# Altium schematic symbol library MCU_ST_STM32L4.SchLib: 320 symbols (part 9 of 9)
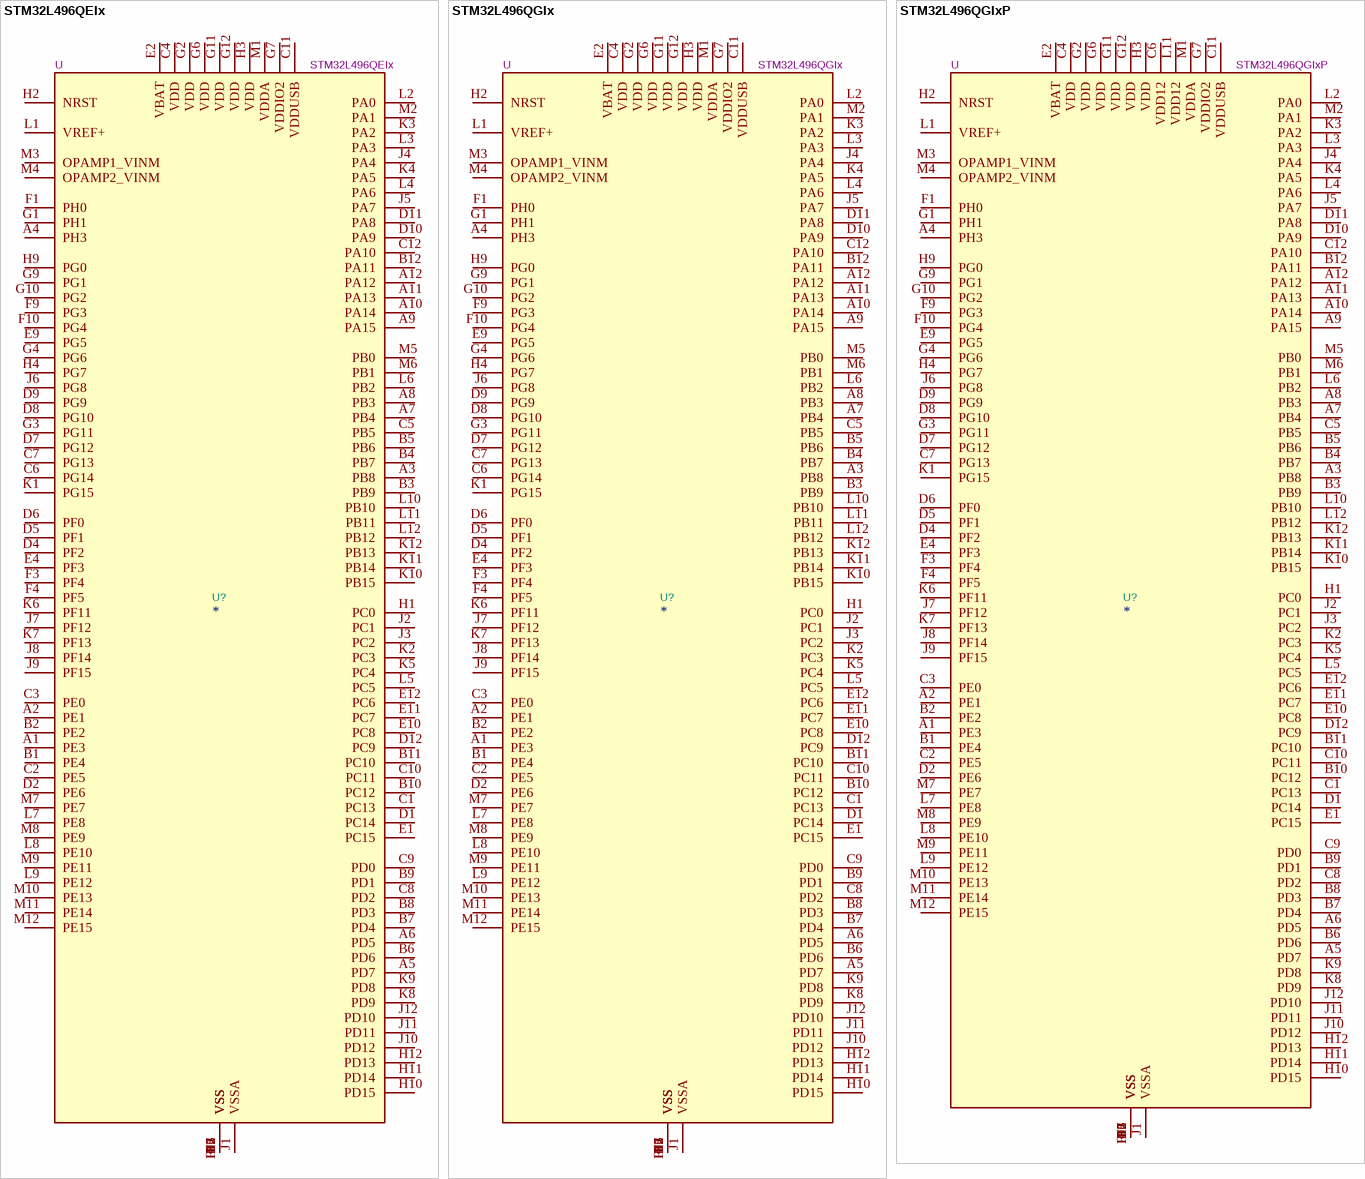
[diagram p71: symbols STM32L496QEIx to STM32L496QGIxP]

## STM32L496QGIxP
designator U?  value STM32L496QGIxP  Reference: U
STMicroelectronics Arm Cortex-M4 MCU, 1024KB flash, 320KB RAM, 80 MHz, 1.71-3.6V, 108 GPIO, UFBGA132; ki_keywords: Arm Cortex-M4 STM32L4 STM32L4x6; ki_fp_filters: UFBGA*7x7mm*Layout12x12*P0.5mm*; Footprint: Package_BGA:UFBGA-132_7x7mm_Layout12x12_P0.5mm; Datasheet: https://www.st.com/resource/en/datasheet/stm32l496qg.pdf; Description_: STMicroelectronics Arm Cortex-M4 MCU, 1024KB flash, 320KB RAM, 80 MHz, 1.71-3.6V, 108 GPIO, UFBGA132
pins: A1 PE3, A2 PE1, A3 PB8, A4 PH3, A5 PD7, A6 PD5, A7 PB4, A8 PB3, A9 PA15, A10 PA14, A11 PA13, A12 PA12, B1 PE4, B2 PE2, B3 PB9, B4 PB7, B5 PB6, B6 PD6, B7 PD4, B8 PD3, B9 PD1, B10 PC12, B11 PC10, B12 PA11, C1 PC13, C2 PE5, C3 PE0, C4 VDD, C5 PB5, C6 VDD12, C7 PG13, C8 PD2, C9 PD0, C10 PC11, C11 VDDUSB, C12 PA10, D1 PC14, D2 PE6, D3 VSS, D4 PF2, D5 PF1, D6 PF0, D7 PG12, D8 PG10, D9 PG9, D10 PA9, D11 PA8, D12 PC9, E1 PC15, E2 VBAT, E3 VSS, E4 PF3, E9 PG5, E10 PC8, E11 PC7, E12 PC6, F1 PH0, F2 VSS, F3 PF4, F4 PF5, F6 VSS, F7 VSS, F9 PG3, F10 PG4, F11 VSS, F12 VSS, G1 PH1, G2 VDD, G3 PG11, G4 PG6, G6 VDD, G7 VDDIO2, G9 PG1, G10 PG2, G11 VDD, G12 VDD, H1 PC0, H2 NRST, H3 VDD, H4 PG7, H9 PG0, H10 PD15, H11 PD14, H12 PD13, J1 VSSA, J2 PC1, J3 PC2, J4 PA4, J5 PA7, J6 PG8, J7 PF12, J8 PF14, J9 PF15, J10 PD12, J11 PD11, J12 PD10, K1 PG15, K2 PC3, K3 PA2, K4 PA5, K5 PC4, K6 PF11, K7 PF13, K8 PD9, K9 PD8, K10 PB15, K11 PB14, K12 PB13, L1 VREF+, L2 PA0, L3 PA3, L4 PA6, L5 PC5, L6 PB2, L7 PE8, L8 PE10, L9 PE12, L10 PB10, L11 VDD12, L12 PB12, M1 VDDA, M2 PA1, M3 OPAMP1_VINM, M4 OPAMP2_VINM, M5 PB0, M6 PB1, M7 PE7, M8 PE9, M9 PE11, M10 PE13, M11 PE14, M12 PE15

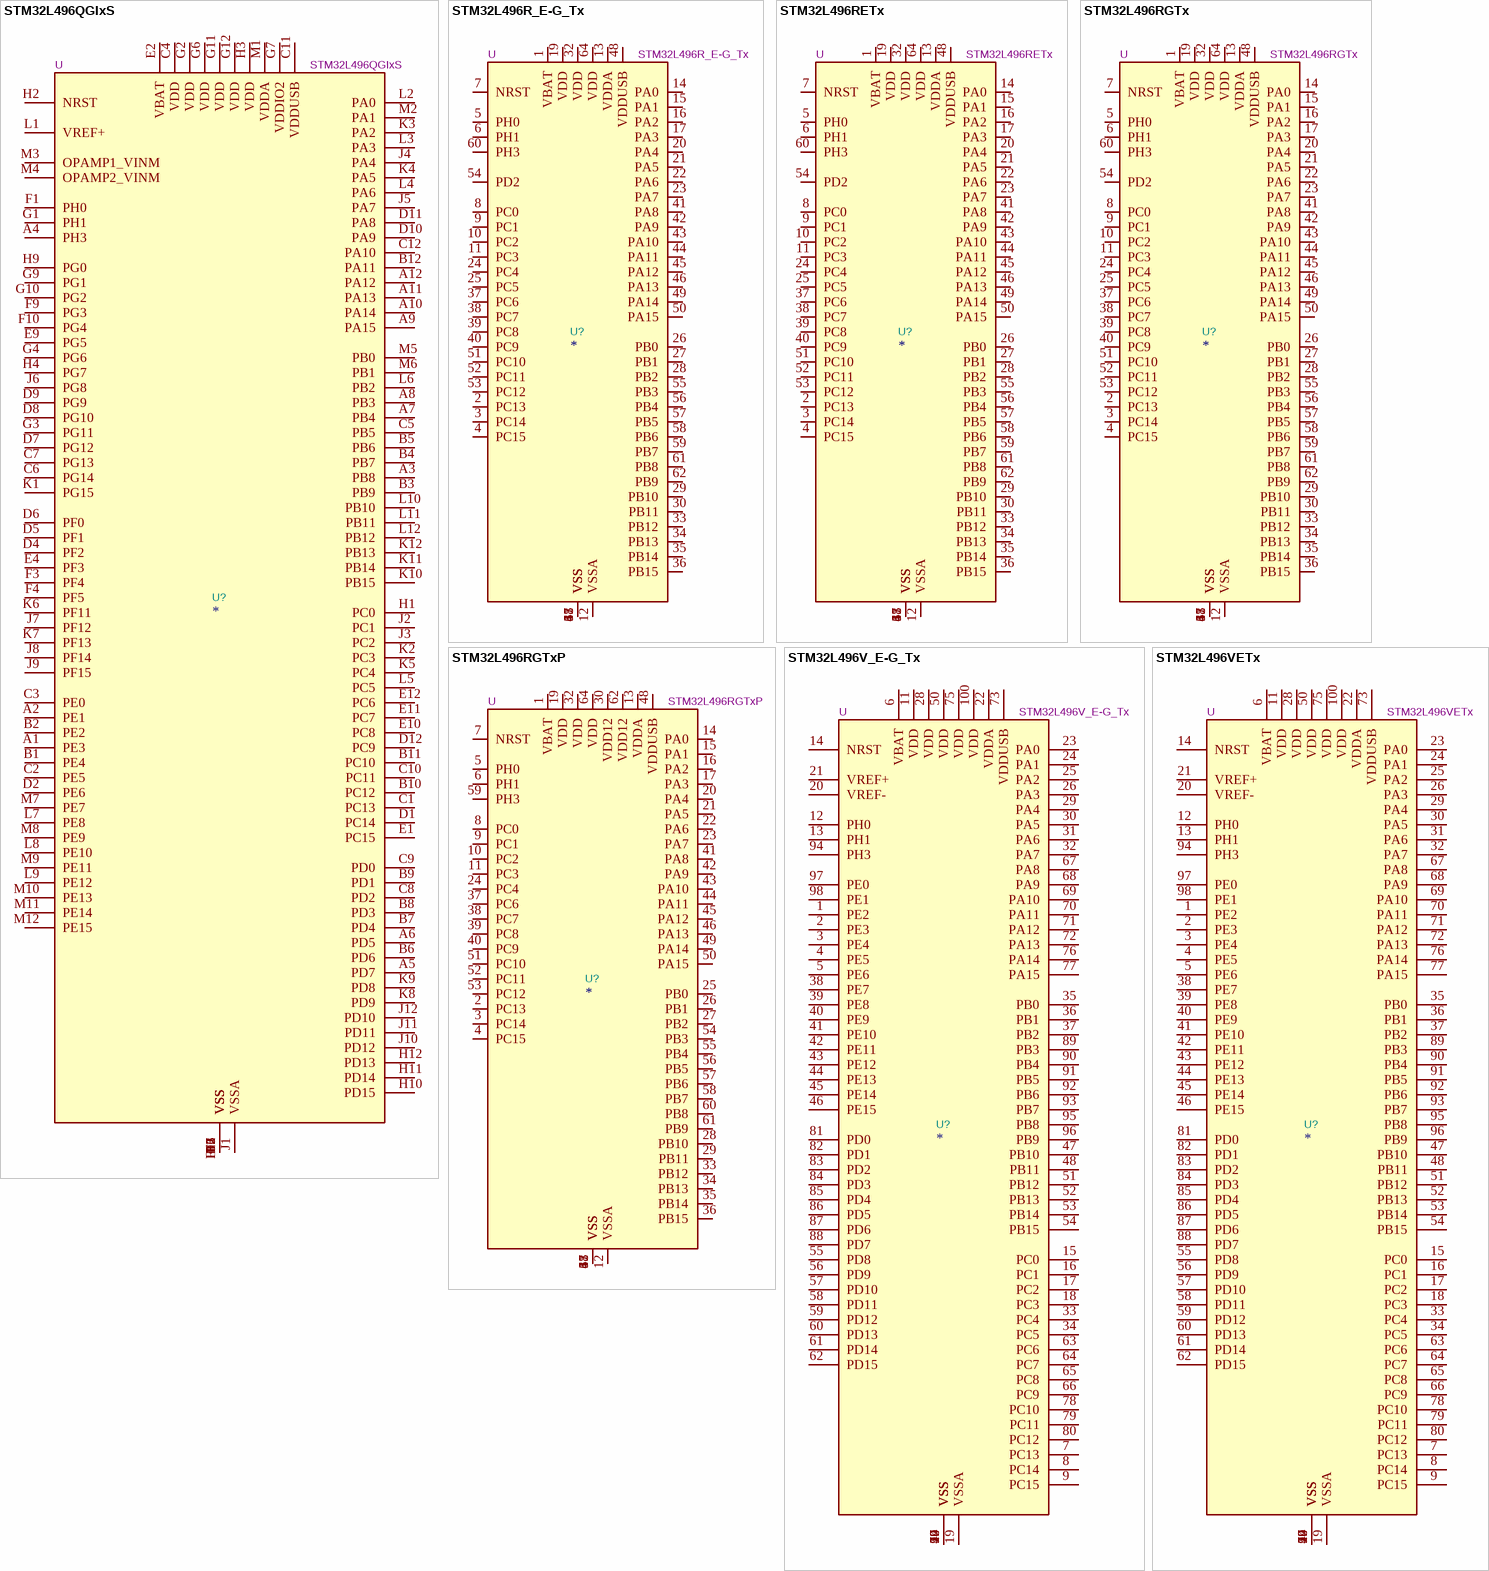
[diagram p60: symbols STM32L496QGIxS to STM32L496VETx]

## STM32L496QGIxS
designator U?  value STM32L496QGIxS  Reference: U
STMicroelectronics Arm Cortex-M4 MCU, 1024KB flash, 320KB RAM, 80 MHz, 1.71-3.6V, 110 GPIO, UFBGA132; ki_keywords: Arm Cortex-M4 STM32L4 STM32L4x6; ki_fp_filters: UFBGA*7x7mm*Layout12x12*P0.5mm*; Footprint: Package_BGA:UFBGA-132_7x7mm_Layout12x12_P0.5mm; Datasheet: https://www.st.com/resource/en/datasheet/stm32l496qg.pdf; Description_: STMicroelectronics Arm Cortex-M4 MCU, 1024KB flash, 320KB RAM, 80 MHz, 1.71-3.6V, 110 GPIO, UFBGA132
pins: A1 PE3, A2 PE1, A3 PB8, A4 PH3, A5 PD7, A6 PD5, A7 PB4, A8 PB3, A9 PA15, A10 PA14, A11 PA13, A12 PA12, B1 PE4, B2 PE2, B3 PB9, B4 PB7, B5 PB6, B6 PD6, B7 PD4, B8 PD3, B9 PD1, B10 PC12, B11 PC10, B12 PA11, C1 PC13, C2 PE5, C3 PE0, C4 VDD, C5 PB5, C6 PG14, C7 PG13, C8 PD2, C9 PD0, C10 PC11, C11 VDDUSB, C12 PA10, D1 PC14, D2 PE6, D3 VSS, D4 PF2, D5 PF1, D6 PF0, D7 PG12, D8 PG10, D9 PG9, D10 PA9, D11 PA8, D12 PC9, E1 PC15, E2 VBAT, E3 VSS, E4 PF3, E9 PG5, E10 PC8, E11 PC7, E12 PC6, F1 PH0, F2 VSS, F3 PF4, F4 PF5, F6 VSS, F7 VSS, F9 PG3, F10 PG4, F11 VSS, F12 VSS, G1 PH1, G2 VDD, G3 PG11, G4 PG6, G6 VDD, G7 VDDIO2, G9 PG1, G10 PG2, G11 VDD, G12 VDD, H1 PC0, H2 NRST, H3 VDD, H4 PG7, H9 PG0, H10 PD15, H11 PD14, H12 PD13, J1 VSSA, J2 PC1, J3 PC2, J4 PA4, J5 PA7, J6 PG8, J7 PF12, J8 PF14, J9 PF15, J10 PD12, J11 PD11, J12 PD10, K1 PG15, K2 PC3, K3 PA2, K4 PA5, K5 PC4, K6 PF11, K7 PF13, K8 PD9, K9 PD8, K10 PB15, K11 PB14, K12 PB13, L1 VREF+, L2 PA0, L3 PA3, L4 PA6, L5 PC5, L6 PB2, L7 PE8, L8 PE10, L9 PE12, L10 PB10, L11 PB11, L12 PB12, M1 VDDA, M2 PA1, M3 OPAMP1_VINM, M4 OPAMP2_VINM, M5 PB0, M6 PB1, M7 PE7, M8 PE9, M9 PE11, M10 PE13, M11 PE14, M12 PE15

## STM32L496R_E-G_Tx
designator U?  value STM32L496R_E-G_Tx  Reference: U
STMicroelectronics Arm Cortex-M4 MCU, 512-1024KB flash, 320KB RAM, 80 MHz, 1.71-3.6V, 52 GPIO, LQFP64; ki_keywords: Arm Cortex-M4 STM32L4 STM32L4x6; ki_fp_filters: LQFP*10x10mm*P0.5mm*; Footprint: Package_QFP:LQFP-64_10x10mm_P0.5mm; Datasheet: https://www.st.com/resource/en/datasheet/stm32l496re.pdf; Description_: STMicroelectronics Arm Cortex-M4 MCU, 512-1024KB flash, 320KB RAM, 80 MHz, 1.71-3.6V, 52 GPIO, LQFP64
pins: 1 VBAT, 2 PC13, 3 PC14, 4 PC15, 5 PH0, 6 PH1, 7 NRST, 8 PC0, 9 PC1, 10 PC2, 11 PC3, 12 VSSA, 13 VDDA, 14 PA0, 15 PA1, 16 PA2, 17 PA3, 18 VSS, 19 VDD, 20 PA4, 21 PA5, 22 PA6, 23 PA7, 24 PC4, 25 PC5, 26 PB0, 27 PB1, 28 PB2, 29 PB10, 30 PB11, 31 VSS, 32 VDD, 33 PB12, 34 PB13, 35 PB14, 36 PB15, 37 PC6, 38 PC7, 39 PC8, 40 PC9, 41 PA8, 42 PA9, 43 PA10, 44 PA11, 45 PA12, 46 PA13, 47 VSS, 48 VDDUSB, 49 PA14, 50 PA15, 51 PC10, 52 PC11, 53 PC12, 54 PD2, 55 PB3, 56 PB4, 57 PB5, 58 PB6, 59 PB7, 60 PH3, 61 PB8, 62 PB9, 63 VSS, 64 VDD

## STM32L496RETx
designator U?  value STM32L496RETx  Reference: U
STMicroelectronics Arm Cortex-M4 MCU, 512KB flash, 320KB RAM, 80 MHz, 1.71-3.6V, 52 GPIO, LQFP64; ki_keywords: Arm Cortex-M4 STM32L4 STM32L4x6; ki_fp_filters: LQFP*10x10mm*P0.5mm*; Footprint: Package_QFP:LQFP-64_10x10mm_P0.5mm; Datasheet: https://www.st.com/resource/en/datasheet/stm32l496re.pdf; Description_: STMicroelectronics Arm Cortex-M4 MCU, 512KB flash, 320KB RAM, 80 MHz, 1.71-3.6V, 52 GPIO, LQFP64
pins: 1 VBAT, 2 PC13, 3 PC14, 4 PC15, 5 PH0, 6 PH1, 7 NRST, 8 PC0, 9 PC1, 10 PC2, 11 PC3, 12 VSSA, 13 VDDA, 14 PA0, 15 PA1, 16 PA2, 17 PA3, 18 VSS, 19 VDD, 20 PA4, 21 PA5, 22 PA6, 23 PA7, 24 PC4, 25 PC5, 26 PB0, 27 PB1, 28 PB2, 29 PB10, 30 PB11, 31 VSS, 32 VDD, 33 PB12, 34 PB13, 35 PB14, 36 PB15, 37 PC6, 38 PC7, 39 PC8, 40 PC9, 41 PA8, 42 PA9, 43 PA10, 44 PA11, 45 PA12, 46 PA13, 47 VSS, 48 VDDUSB, 49 PA14, 50 PA15, 51 PC10, 52 PC11, 53 PC12, 54 PD2, 55 PB3, 56 PB4, 57 PB5, 58 PB6, 59 PB7, 60 PH3, 61 PB8, 62 PB9, 63 VSS, 64 VDD

## STM32L496RGTx
designator U?  value STM32L496RGTx  Reference: U
STMicroelectronics Arm Cortex-M4 MCU, 1024KB flash, 320KB RAM, 80 MHz, 1.71-3.6V, 52 GPIO, LQFP64; ki_keywords: Arm Cortex-M4 STM32L4 STM32L4x6; ki_fp_filters: LQFP*10x10mm*P0.5mm*; Footprint: Package_QFP:LQFP-64_10x10mm_P0.5mm; Datasheet: https://www.st.com/resource/en/datasheet/stm32l496rg.pdf; Description_: STMicroelectronics Arm Cortex-M4 MCU, 1024KB flash, 320KB RAM, 80 MHz, 1.71-3.6V, 52 GPIO, LQFP64
pins: 1 VBAT, 2 PC13, 3 PC14, 4 PC15, 5 PH0, 6 PH1, 7 NRST, 8 PC0, 9 PC1, 10 PC2, 11 PC3, 12 VSSA, 13 VDDA, 14 PA0, 15 PA1, 16 PA2, 17 PA3, 18 VSS, 19 VDD, 20 PA4, 21 PA5, 22 PA6, 23 PA7, 24 PC4, 25 PC5, 26 PB0, 27 PB1, 28 PB2, 29 PB10, 30 PB11, 31 VSS, 32 VDD, 33 PB12, 34 PB13, 35 PB14, 36 PB15, 37 PC6, 38 PC7, 39 PC8, 40 PC9, 41 PA8, 42 PA9, 43 PA10, 44 PA11, 45 PA12, 46 PA13, 47 VSS, 48 VDDUSB, 49 PA14, 50 PA15, 51 PC10, 52 PC11, 53 PC12, 54 PD2, 55 PB3, 56 PB4, 57 PB5, 58 PB6, 59 PB7, 60 PH3, 61 PB8, 62 PB9, 63 VSS, 64 VDD

## STM32L496RGTxP
designator U?  value STM32L496RGTxP  Reference: U
STMicroelectronics Arm Cortex-M4 MCU, 1024KB flash, 320KB RAM, 80 MHz, 1.71-3.6V, 50 GPIO, LQFP64; ki_keywords: Arm Cortex-M4 STM32L4 STM32L4x6; ki_fp_filters: LQFP*10x10mm*P0.5mm*; Footprint: Package_QFP:LQFP-64_10x10mm_P0.5mm; Datasheet: https://www.st.com/resource/en/datasheet/stm32l496rg.pdf; Description_: STMicroelectronics Arm Cortex-M4 MCU, 1024KB flash, 320KB RAM, 80 MHz, 1.71-3.6V, 50 GPIO, LQFP64
pins: 1 VBAT, 2 PC13, 3 PC14, 4 PC15, 5 PH0, 6 PH1, 7 NRST, 8 PC0, 9 PC1, 10 PC2, 11 PC3, 12 VSSA, 13 VDDA, 14 PA0, 15 PA1, 16 PA2, 17 PA3, 18 VSS, 19 VDD, 20 PA4, 21 PA5, 22 PA6, 23 PA7, 24 PC4, 25 PB0, 26 PB1, 27 PB2, 28 PB10, 29 PB11, 30 VDD12, 31 VSS, 32 VDD, 33 PB12, 34 PB13, 35 PB14, 36 PB15, 37 PC6, 38 PC7, 39 PC8, 40 PC9, 41 PA8, 42 PA9, 43 PA10, 44 PA11, 45 PA12, 46 PA13, 47 VSS, 48 VDDUSB, 49 PA14, 50 PA15, 51 PC10, 52 PC11, 53 PC12, 54 PB3, 55 PB4, 56 PB5, 57 PB6, 58 PB7, 59 PH3, 60 PB8, 61 PB9, 62 VDD12, 63 VSS, 64 VDD

## STM32L496V_E-G_Tx
designator U?  value STM32L496V_E-G_Tx  Reference: U
STMicroelectronics Arm Cortex-M4 MCU, 512-1024KB flash, 320KB RAM, 80 MHz, 1.71-3.6V, 83 GPIO, LQFP100; ki_keywords: Arm Cortex-M4 STM32L4 STM32L4x6; ki_fp_filters: LQFP*14x14mm*P0.5mm*; Footprint: Package_QFP:LQFP-100_14x14mm_P0.5mm; Datasheet: https://www.st.com/resource/en/datasheet/stm32l496ve.pdf; Description_: STMicroelectronics Arm Cortex-M4 MCU, 512-1024KB flash, 320KB RAM, 80 MHz, 1.71-3.6V, 83 GPIO, LQFP100
pins: 1 PE2, 2 PE3, 3 PE4, 4 PE5, 5 PE6, 6 VBAT, 7 PC13, 8 PC14, 9 PC15, 10 VSS, 11 VDD, 12 PH0, 13 PH1, 14 NRST, 15 PC0, 16 PC1, 17 PC2, 18 PC3, 19 VSSA, 20 VREF-, 21 VREF+, 22 VDDA, 23 PA0, 24 PA1, 25 PA2, 26 PA3, 27 VSS, 28 VDD, 29 PA4, 30 PA5, 31 PA6, 32 PA7, 33 PC4, 34 PC5, 35 PB0, 36 PB1, 37 PB2, 38 PE7, 39 PE8, 40 PE9, 41 PE10, 42 PE11, 43 PE12, 44 PE13, 45 PE14, 46 PE15, 47 PB10, 48 PB11, 49 VSS, 50 VDD, 51 PB12, 52 PB13, 53 PB14, 54 PB15, 55 PD8, 56 PD9, 57 PD10, 58 PD11, 59 PD12, 60 PD13, 61 PD14, 62 PD15, 63 PC6, 64 PC7, 65 PC8, 66 PC9, 67 PA8, 68 PA9, 69 PA10, 70 PA11, 71 PA12, 72 PA13, 73 VDDUSB, 74 VSS, 75 VDD, 76 PA14, 77 PA15, 78 PC10, 79 PC11, 80 PC12, 81 PD0, 82 PD1, 83 PD2, 84 PD3, 85 PD4, 86 PD5, 87 PD6, 88 PD7, 89 PB3, 90 PB4, 91 PB5, 92 PB6, 93 PB7, 94 PH3, 95 PB8, 96 PB9, 97 PE0, 98 PE1, 99 VSS, 100 VDD

## STM32L496VETx
designator U?  value STM32L496VETx  Reference: U
STMicroelectronics Arm Cortex-M4 MCU, 512KB flash, 320KB RAM, 80 MHz, 1.71-3.6V, 83 GPIO, LQFP100; ki_keywords: Arm Cortex-M4 STM32L4 STM32L4x6; ki_fp_filters: LQFP*14x14mm*P0.5mm*; Footprint: Package_QFP:LQFP-100_14x14mm_P0.5mm; Datasheet: https://www.st.com/resource/en/datasheet/stm32l496ve.pdf; Description_: STMicroelectronics Arm Cortex-M4 MCU, 512KB flash, 320KB RAM, 80 MHz, 1.71-3.6V, 83 GPIO, LQFP100
pins: 1 PE2, 2 PE3, 3 PE4, 4 PE5, 5 PE6, 6 VBAT, 7 PC13, 8 PC14, 9 PC15, 10 VSS, 11 VDD, 12 PH0, 13 PH1, 14 NRST, 15 PC0, 16 PC1, 17 PC2, 18 PC3, 19 VSSA, 20 VREF-, 21 VREF+, 22 VDDA, 23 PA0, 24 PA1, 25 PA2, 26 PA3, 27 VSS, 28 VDD, 29 PA4, 30 PA5, 31 PA6, 32 PA7, 33 PC4, 34 PC5, 35 PB0, 36 PB1, 37 PB2, 38 PE7, 39 PE8, 40 PE9, 41 PE10, 42 PE11, 43 PE12, 44 PE13, 45 PE14, 46 PE15, 47 PB10, 48 PB11, 49 VSS, 50 VDD, 51 PB12, 52 PB13, 53 PB14, 54 PB15, 55 PD8, 56 PD9, 57 PD10, 58 PD11, 59 PD12, 60 PD13, 61 PD14, 62 PD15, 63 PC6, 64 PC7, 65 PC8, 66 PC9, 67 PA8, 68 PA9, 69 PA10, 70 PA11, 71 PA12, 72 PA13, 73 VDDUSB, 74 VSS, 75 VDD, 76 PA14, 77 PA15, 78 PC10, 79 PC11, 80 PC12, 81 PD0, 82 PD1, 83 PD2, 84 PD3, 85 PD4, 86 PD5, 87 PD6, 88 PD7, 89 PB3, 90 PB4, 91 PB5, 92 PB6, 93 PB7, 94 PH3, 95 PB8, 96 PB9, 97 PE0, 98 PE1, 99 VSS, 100 VDD

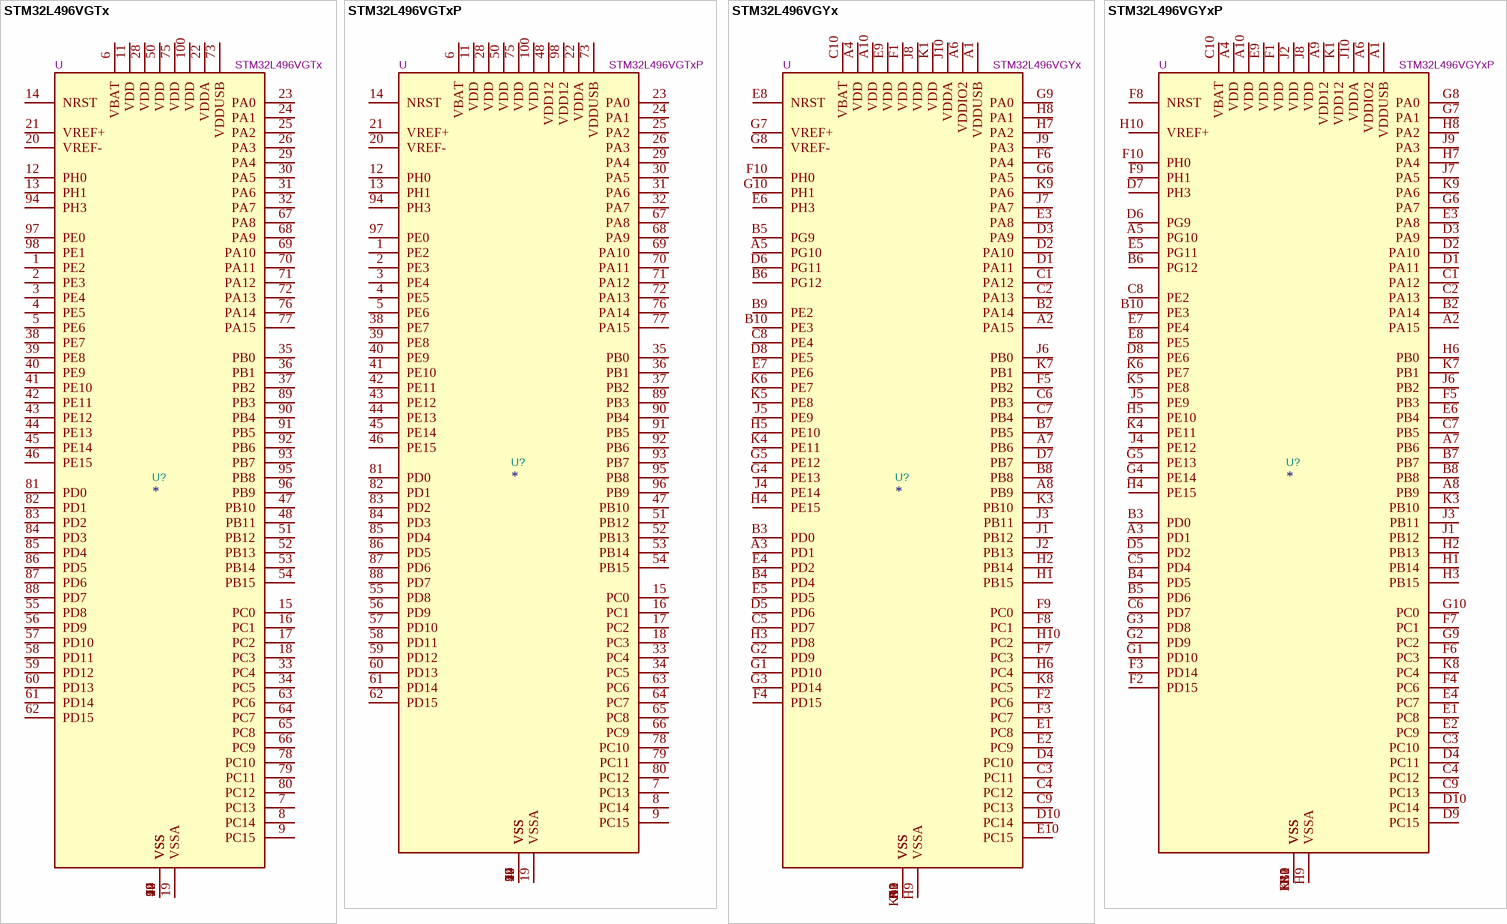
[diagram p61: symbols STM32L496VGTx to STM32L496VGYxP]

## STM32L496VGTx
designator U?  value STM32L496VGTx  Reference: U
STMicroelectronics Arm Cortex-M4 MCU, 1024KB flash, 320KB RAM, 80 MHz, 1.71-3.6V, 83 GPIO, LQFP100; ki_keywords: Arm Cortex-M4 STM32L4 STM32L4x6; ki_fp_filters: LQFP*14x14mm*P0.5mm*; Footprint: Package_QFP:LQFP-100_14x14mm_P0.5mm; Datasheet: https://www.st.com/resource/en/datasheet/stm32l496vg.pdf; Description_: STMicroelectronics Arm Cortex-M4 MCU, 1024KB flash, 320KB RAM, 80 MHz, 1.71-3.6V, 83 GPIO, LQFP100
pins: 1 PE2, 2 PE3, 3 PE4, 4 PE5, 5 PE6, 6 VBAT, 7 PC13, 8 PC14, 9 PC15, 10 VSS, 11 VDD, 12 PH0, 13 PH1, 14 NRST, 15 PC0, 16 PC1, 17 PC2, 18 PC3, 19 VSSA, 20 VREF-, 21 VREF+, 22 VDDA, 23 PA0, 24 PA1, 25 PA2, 26 PA3, 27 VSS, 28 VDD, 29 PA4, 30 PA5, 31 PA6, 32 PA7, 33 PC4, 34 PC5, 35 PB0, 36 PB1, 37 PB2, 38 PE7, 39 PE8, 40 PE9, 41 PE10, 42 PE11, 43 PE12, 44 PE13, 45 PE14, 46 PE15, 47 PB10, 48 PB11, 49 VSS, 50 VDD, 51 PB12, 52 PB13, 53 PB14, 54 PB15, 55 PD8, 56 PD9, 57 PD10, 58 PD11, 59 PD12, 60 PD13, 61 PD14, 62 PD15, 63 PC6, 64 PC7, 65 PC8, 66 PC9, 67 PA8, 68 PA9, 69 PA10, 70 PA11, 71 PA12, 72 PA13, 73 VDDUSB, 74 VSS, 75 VDD, 76 PA14, 77 PA15, 78 PC10, 79 PC11, 80 PC12, 81 PD0, 82 PD1, 83 PD2, 84 PD3, 85 PD4, 86 PD5, 87 PD6, 88 PD7, 89 PB3, 90 PB4, 91 PB5, 92 PB6, 93 PB7, 94 PH3, 95 PB8, 96 PB9, 97 PE0, 98 PE1, 99 VSS, 100 VDD

## STM32L496VGTxP
designator U?  value STM32L496VGTxP  Reference: U
STMicroelectronics Arm Cortex-M4 MCU, 1024KB flash, 320KB RAM, 80 MHz, 1.71-3.6V, 81 GPIO, LQFP100; ki_keywords: Arm Cortex-M4 STM32L4 STM32L4x6; ki_fp_filters: LQFP*14x14mm*P0.5mm*; Footprint: Package_QFP:LQFP-100_14x14mm_P0.5mm; Datasheet: https://www.st.com/resource/en/datasheet/stm32l496vg.pdf; Description_: STMicroelectronics Arm Cortex-M4 MCU, 1024KB flash, 320KB RAM, 80 MHz, 1.71-3.6V, 81 GPIO, LQFP100
pins: 1 PE2, 2 PE3, 3 PE4, 4 PE5, 5 PE6, 6 VBAT, 7 PC13, 8 PC14, 9 PC15, 10 VSS, 11 VDD, 12 PH0, 13 PH1, 14 NRST, 15 PC0, 16 PC1, 17 PC2, 18 PC3, 19 VSSA, 20 VREF-, 21 VREF+, 22 VDDA, 23 PA0, 24 PA1, 25 PA2, 26 PA3, 27 VSS, 28 VDD, 29 PA4, 30 PA5, 31 PA6, 32 PA7, 33 PC4, 34 PC5, 35 PB0, 36 PB1, 37 PB2, 38 PE7, 39 PE8, 40 PE9, 41 PE10, 42 PE11, 43 PE12, 44 PE13, 45 PE14, 46 PE15, 47 PB10, 48 VDD12, 49 VSS, 50 VDD, 51 PB12, 52 PB13, 53 PB14, 54 PB15, 55 PD8, 56 PD9, 57 PD10, 58 PD11, 59 PD12, 60 PD13, 61 PD14, 62 PD15, 63 PC6, 64 PC7, 65 PC8, 66 PC9, 67 PA8, 68 PA9, 69 PA10, 70 PA11, 71 PA12, 72 PA13, 73 VDDUSB, 74 VSS, 75 VDD, 76 PA14, 77 PA15, 78 PC10, 79 PC11, 80 PC12, 81 PD0, 82 PD1, 83 PD2, 84 PD3, 85 PD4, 86 PD5, 87 PD6, 88 PD7, 89 PB3, 90 PB4, 91 PB5, 92 PB6, 93 PB7, 94 PH3, 95 PB8, 96 PB9, 97 PE0, 98 VDD12, 99 VSS, 100 VDD

## STM32L496VGYx
designator U?  value STM32L496VGYx  Reference: U
STMicroelectronics Arm Cortex-M4 MCU, 1024KB flash, 320KB RAM, 80 MHz, 1.71-3.6V, 81 GPIO, WLCSP100; ki_keywords: Arm Cortex-M4 STM32L4 STM32L4x6; ki_fp_filters: ST*WLCSP*Die461*; Footprint: Package_CSP:ST_WLCSP-100_Die461; Datasheet: https://www.st.com/resource/en/datasheet/stm32l496vg.pdf; Description_: STMicroelectronics Arm Cortex-M4 MCU, 1024KB flash, 320KB RAM, 80 MHz, 1.71-3.6V, 81 GPIO, WLCSP100
pins: A1 VDDUSB, A2 PA15, A3 PD1, A4 VDD, A5 PG10, A6 VDDIO2, A7 PB6, A8 PB9, A9 VSS, A10 VDD, B1 VSS, B2 PA14, B3 PD0, B4 PD4, B5 PG9, B6 PG12, B7 PB5, B8 PB8, B9 PE2, B10 PE3, C1 PA12, C2 PA13, C3 PC11, C4 PC12, C5 PD7, C6 PB3, C7 PB4, C8 PE4, C9 PC13, C10 VBAT, D1 PA11, D2 PA10, D3 PA9, D4 PC10, D5 PD6, D6 PG11, D7 PB7, D8 PE5, D9 VSS, D10 PC14, E1 PC8, E2 PC9, E3 PA8, E4 PD2, E5 PD5, E6 PH3, E7 PE6, E8 NRST, E9 VDD, E10 PC15, F1 VDD, F2 PC6, F3 PC7, F4 PD15, F5 PB2, F6 PA4, F7 PC3, F8 PC1, F9 PC0, F10 PH0, G1 PD10, G2 PD9, G3 PD14, G4 PE13, G5 PE12, G6 PA5, G7 VREF+, G8 VREF-, G9 PA0, G10 PH1, H1 PB15, H2 PB14, H3 PD8, H4 PE15, H5 PE10, H6 PC4, H7 PA2, H8 PA1, H9 VSSA, H10 PC2, J1 PB12, J2 PB13, J3 PB11, J4 PE14, J5 PE9, J6 PB0, J7 PA7, J8 VDD, J9 PA3, J10 VDDA, K1 VDD, K2 VSS, K3 PB10, K4 PE11, K5 PE8, K6 PE7, K7 PB1, K8 PC5, K9 PA6, K10 VSS

## STM32L496VGYxP
designator U?  value STM32L496VGYxP  Reference: U
STMicroelectronics Arm Cortex-M4 MCU, 1024KB flash, 320KB RAM, 80 MHz, 1.71-3.6V, 80 GPIO, WLCSP100; ki_keywords: Arm Cortex-M4 STM32L4 STM32L4x6; ki_fp_filters: ST*WLCSP*Die461*; Footprint: Package_CSP:ST_WLCSP-100_Die461; Datasheet: https://www.st.com/resource/en/datasheet/stm32l496vg.pdf; Description_: STMicroelectronics Arm Cortex-M4 MCU, 1024KB flash, 320KB RAM, 80 MHz, 1.71-3.6V, 80 GPIO, WLCSP100
pins: A1 VDDUSB, A2 PA15, A3 PD1, A4 VDD, A5 PG10, A6 VDDIO2, A7 PB6, A8 PB9, A9 VDD12, A10 VDD, B1 VSS, B2 PA14, B3 PD0, B4 PD5, B5 PD6, B6 PG12, B7 PB7, B8 PB8, B9 VSS, B10 PE3, C1 PA12, C2 PA13, C3 PC10, C4 PC12, C5 PD4, C6 PD7, C7 PB5, C8 PE2, C9 PC13, C10 VBAT, D1 PA11, D2 PA10, D3 PA9, D4 PC11, D5 PD2, D6 PG9, D7 PH3, D8 PE6, D9 PC15, D10 PC14, E1 PC8, E2 PC9, E3 PA8, E4 PC7, E5 PG11, E6 PB4, E7 PE4, E8 PE5, E9 VDD, E10 VSS, F1 VDD, F2 PD15, F3 PD14, F4 PC6, F5 PB3, F6 PC3, F7 PC1, F8 NRST, F9 PH1, F10 PH0, G1 PD10, G2 PD9, G3 PD8, G4 PE14, G5 PE13, G6 PA7, G7 PA1, G8 PA0, G9 PC2, G10 PC0, H1 PB14, H2 PB13, H3 PB15, H4 PE15, H5 PE10, H6 PB0, H7 PA4, H8 PA2, H9 VSSA, H10 VREF+, J1 PB12, J2 VDD, J3 PB11, J4 PE12, J5 PE9, J6 PB2, J7 PA5, J8 VDD, J9 PA3, J10 VDDA, K1 VDD12, K2 VSS, K3 PB10, K4 PE11, K5 PE8, K6 PE7, K7 PB1, K8 PC4, K9 PA6, K10 VSS

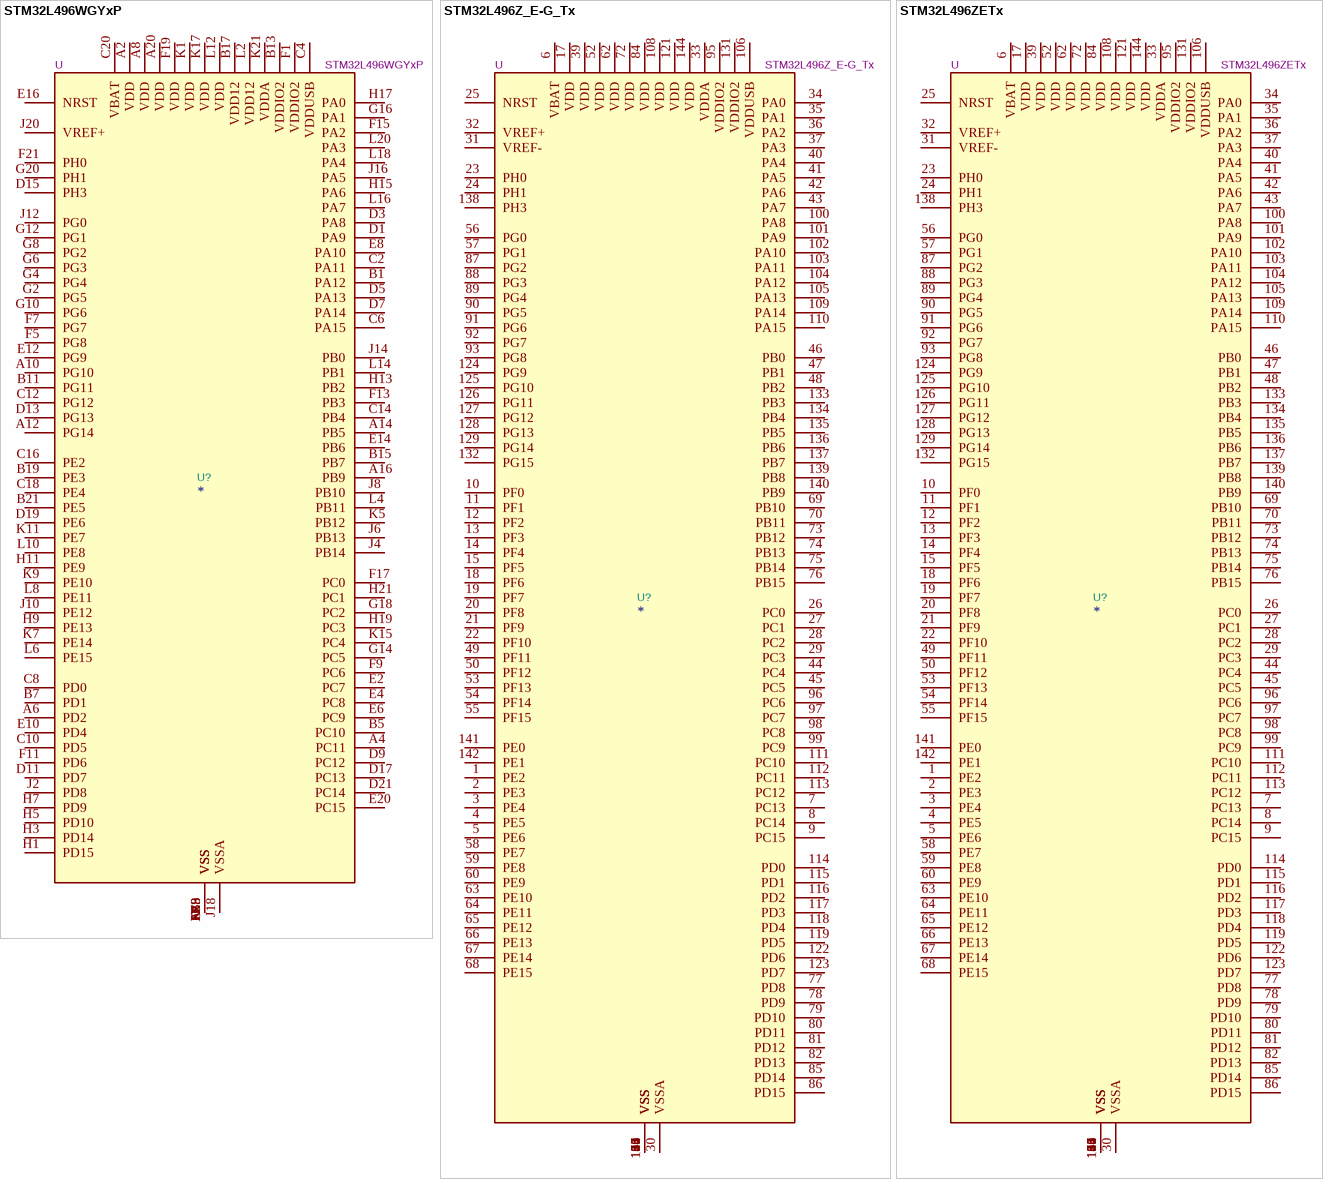
[diagram p62: symbols STM32L496WGYxP to STM32L496ZETx]

## STM32L496WGYxP
designator U?  value STM32L496WGYxP  Reference: U
STMicroelectronics Arm Cortex-M4 MCU, 1024KB flash, 320KB RAM, 80 MHz, 1.71-3.6V, 90 GPIO, WLCSP115; ki_keywords: Arm Cortex-M4 STM32L4 STM32L4x6; ki_fp_filters: ST*WLCSP*4.63x4.15mm*Layout21x11*P0.4mm*Stagger*; Footprint: Package_CSP:ST_WLCSP-115_4.63x4.15mm_Layout21x11_P0.4mm_Stagger; Datasheet: https://www.st.com/resource/en/datasheet/stm32l496wg.pdf; Description_: STMicroelectronics Arm Cortex-M4 MCU, 1024KB flash, 320KB RAM, 80 MHz, 1.71-3.6V, 90 GPIO, WLCSP115
pins: A2 VDD, A4 PC11, A6 PD2, A8 VDD, A10 PG10, A12 PG14, A14 PB5, A16 PB9, A18 VSS, A20 VDD, B1 PA12, B3 VSS, B5 PC10, B7 PD1, B9 VSS, B11 PG11, B13 VDDIO2, B15 PB7, B17 VDD12, B19 PE3, B21 PE5, C2 PA11, C4 VDDUSB, C6 PA15, C8 PD0, C10 PD5, C12 PG12, C14 PB4, C16 PE2, C18 PE4, C20 VBAT, D1 PA9, D3 PA8, D5 PA13, D7 PA14, D9 PC12, D11 PD7, D13 PG13, D15 PH3, D17 PC13, D19 PE6, D21 PC14, E2 PC7, E4 PC8, E6 PC9, E8 PA10, E10 PD4, E12 PG9, E14 PB6, E16 NRST, E18 VSS, E20 PC15, F1 VDDIO2, F3 VSS, F5 PG8, F7 PG7, F9 PC6, F11 PD6, F13 PB3, F15 PA2, F17 PC0, F19 VDD, F21 PH0, G2 PG5, G4 PG4, G6 PG3, G8 PG2, G10 PG6, G12 PG1, G14 PC5, G16 PA1, G18 PC2, G20 PH1, H1 PD15, H3 PD14, H5 PD10, H7 PD9, H9 PE13, H11 PE9, H13 PB2, H15 PA6, H17 PA0, H19 PC3, H21 PC1, J2 PD8, J4 PB14, J6 PB13, J8 PB10, J10 PE12, J12 PG0, J14 PB0, J16 PA5, J18 VSSA, J20 VREF+, K1 VDD, K3 VSS, K5 PB12, K7 PE14, K9 PE10, K11 PE7, K13 VSS, K15 PC4, K17 VDD, K19 VSS, K21 VDDA, L2 VDD12, L4 PB11, L6 PE15, L8 PE11, L10 PE8, L12 VDD, L14 PB1, L16 PA7, L18 PA4, L20 PA3

## STM32L496Z_E-G_Tx
designator U?  value STM32L496Z_E-G_Tx  Reference: U
STMicroelectronics Arm Cortex-M4 MCU, 512-1024KB flash, 320KB RAM, 80 MHz, 1.71-3.6V, 115 GPIO, LQFP144; ki_keywords: Arm Cortex-M4 STM32L4 STM32L4x6; ki_fp_filters: LQFP*20x20mm*P0.5mm*; Footprint: Package_QFP:LQFP-144_20x20mm_P0.5mm; Datasheet: https://www.st.com/resource/en/datasheet/stm32l496ze.pdf; Description_: STMicroelectronics Arm Cortex-M4 MCU, 512-1024KB flash, 320KB RAM, 80 MHz, 1.71-3.6V, 115 GPIO, LQFP144
pins: 1 PE2, 2 PE3, 3 PE4, 4 PE5, 5 PE6, 6 VBAT, 7 PC13, 8 PC14, 9 PC15, 10 PF0, 11 PF1, 12 PF2, 13 PF3, 14 PF4, 15 PF5, 16 VSS, 17 VDD, 18 PF6, 19 PF7, 20 PF8, 21 PF9, 22 PF10, 23 PH0, 24 PH1, 25 NRST, 26 PC0, 27 PC1, 28 PC2, 29 PC3, 30 VSSA, 31 VREF-, 32 VREF+, 33 VDDA, 34 PA0, 35 PA1, 36 PA2, 37 PA3, 38 VSS, 39 VDD, 40 PA4, 41 PA5, 42 PA6, 43 PA7, 44 PC4, 45 PC5, 46 PB0, 47 PB1, 48 PB2, 49 PF11, 50 PF12, 51 VSS, 52 VDD, 53 PF13, 54 PF14, 55 PF15, 56 PG0, 57 PG1, 58 PE7, 59 PE8, 60 PE9, 61 VSS, 62 VDD, 63 PE10, 64 PE11, 65 PE12, 66 PE13, 67 PE14, 68 PE15, 69 PB10, 70 PB11, 71 VSS, 72 VDD, 73 PB12, 74 PB13, 75 PB14, 76 PB15, 77 PD8, 78 PD9, 79 PD10, 80 PD11, 81 PD12, 82 PD13, 83 VSS, 84 VDD, 85 PD14, 86 PD15, 87 PG2, 88 PG3, 89 PG4, 90 PG5, 91 PG6, 92 PG7, 93 PG8, 94 VSS, 95 VDDIO2, 96 PC6, 97 PC7, 98 PC8, 99 PC9, 100 PA8, 101 PA9, 102 PA10, 103 PA11, 104 PA12, 105 PA13, 106 VDDUSB, 107 VSS, 108 VDD, 109 PA14, 110 PA15, 111 PC10, 112 PC11, 113 PC12, 114 PD0, 115 PD1, 116 PD2, 117 PD3, 118 PD4, 119 PD5, 120 VSS, 121 VDD, 122 PD6, 123 PD7, 124 PG9, 125 PG10, 126 PG11, 127 PG12, 128 PG13, 129 PG14, 130 VSS, 131 VDDIO2, 132 PG15, 133 PB3, 134 PB4, 135 PB5, 136 PB6, 137 PB7, 138 PH3, 139 PB8, 140 PB9, 141 PE0, 142 PE1, 143 VSS, 144 VDD

## STM32L496ZETx
designator U?  value STM32L496ZETx  Reference: U
STMicroelectronics Arm Cortex-M4 MCU, 512KB flash, 320KB RAM, 80 MHz, 1.71-3.6V, 115 GPIO, LQFP144; ki_keywords: Arm Cortex-M4 STM32L4 STM32L4x6; ki_fp_filters: LQFP*20x20mm*P0.5mm*; Footprint: Package_QFP:LQFP-144_20x20mm_P0.5mm; Datasheet: https://www.st.com/resource/en/datasheet/stm32l496ze.pdf; Description_: STMicroelectronics Arm Cortex-M4 MCU, 512KB flash, 320KB RAM, 80 MHz, 1.71-3.6V, 115 GPIO, LQFP144
pins: 1 PE2, 2 PE3, 3 PE4, 4 PE5, 5 PE6, 6 VBAT, 7 PC13, 8 PC14, 9 PC15, 10 PF0, 11 PF1, 12 PF2, 13 PF3, 14 PF4, 15 PF5, 16 VSS, 17 VDD, 18 PF6, 19 PF7, 20 PF8, 21 PF9, 22 PF10, 23 PH0, 24 PH1, 25 NRST, 26 PC0, 27 PC1, 28 PC2, 29 PC3, 30 VSSA, 31 VREF-, 32 VREF+, 33 VDDA, 34 PA0, 35 PA1, 36 PA2, 37 PA3, 38 VSS, 39 VDD, 40 PA4, 41 PA5, 42 PA6, 43 PA7, 44 PC4, 45 PC5, 46 PB0, 47 PB1, 48 PB2, 49 PF11, 50 PF12, 51 VSS, 52 VDD, 53 PF13, 54 PF14, 55 PF15, 56 PG0, 57 PG1, 58 PE7, 59 PE8, 60 PE9, 61 VSS, 62 VDD, 63 PE10, 64 PE11, 65 PE12, 66 PE13, 67 PE14, 68 PE15, 69 PB10, 70 PB11, 71 VSS, 72 VDD, 73 PB12, 74 PB13, 75 PB14, 76 PB15, 77 PD8, 78 PD9, 79 PD10, 80 PD11, 81 PD12, 82 PD13, 83 VSS, 84 VDD, 85 PD14, 86 PD15, 87 PG2, 88 PG3, 89 PG4, 90 PG5, 91 PG6, 92 PG7, 93 PG8, 94 VSS, 95 VDDIO2, 96 PC6, 97 PC7, 98 PC8, 99 PC9, 100 PA8, 101 PA9, 102 PA10, 103 PA11, 104 PA12, 105 PA13, 106 VDDUSB, 107 VSS, 108 VDD, 109 PA14, 110 PA15, 111 PC10, 112 PC11, 113 PC12, 114 PD0, 115 PD1, 116 PD2, 117 PD3, 118 PD4, 119 PD5, 120 VSS, 121 VDD, 122 PD6, 123 PD7, 124 PG9, 125 PG10, 126 PG11, 127 PG12, 128 PG13, 129 PG14, 130 VSS, 131 VDDIO2, 132 PG15, 133 PB3, 134 PB4, 135 PB5, 136 PB6, 137 PB7, 138 PH3, 139 PB8, 140 PB9, 141 PE0, 142 PE1, 143 VSS, 144 VDD

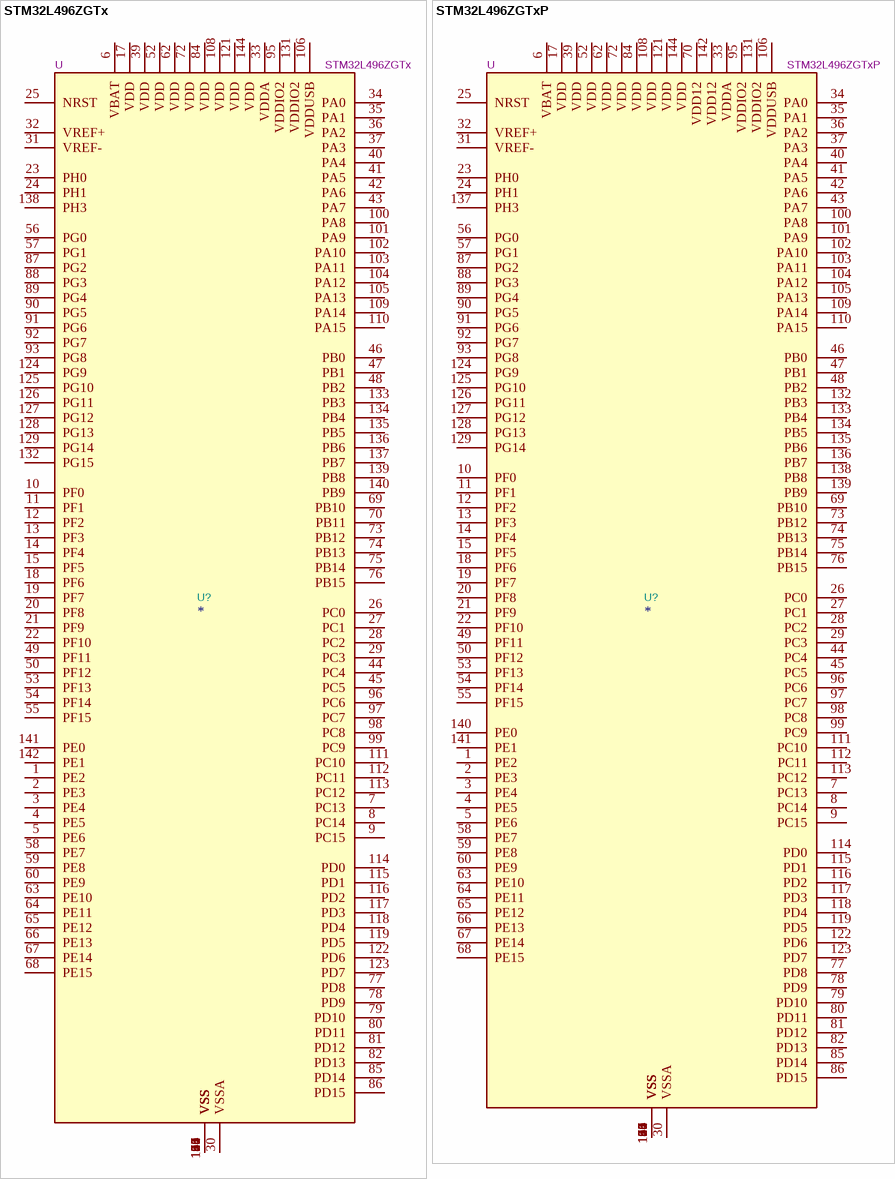
[diagram p63: symbols STM32L496ZGTx to STM32L496ZGTxP]

## STM32L496ZGTx
designator U?  value STM32L496ZGTx  Reference: U
STMicroelectronics Arm Cortex-M4 MCU, 1024KB flash, 320KB RAM, 80 MHz, 1.71-3.6V, 115 GPIO, LQFP144; ki_keywords: Arm Cortex-M4 STM32L4 STM32L4x6; ki_fp_filters: LQFP*20x20mm*P0.5mm*; Footprint: Package_QFP:LQFP-144_20x20mm_P0.5mm; Datasheet: https://www.st.com/resource/en/datasheet/stm32l496zg.pdf; Description_: STMicroelectronics Arm Cortex-M4 MCU, 1024KB flash, 320KB RAM, 80 MHz, 1.71-3.6V, 115 GPIO, LQFP144
pins: 1 PE2, 2 PE3, 3 PE4, 4 PE5, 5 PE6, 6 VBAT, 7 PC13, 8 PC14, 9 PC15, 10 PF0, 11 PF1, 12 PF2, 13 PF3, 14 PF4, 15 PF5, 16 VSS, 17 VDD, 18 PF6, 19 PF7, 20 PF8, 21 PF9, 22 PF10, 23 PH0, 24 PH1, 25 NRST, 26 PC0, 27 PC1, 28 PC2, 29 PC3, 30 VSSA, 31 VREF-, 32 VREF+, 33 VDDA, 34 PA0, 35 PA1, 36 PA2, 37 PA3, 38 VSS, 39 VDD, 40 PA4, 41 PA5, 42 PA6, 43 PA7, 44 PC4, 45 PC5, 46 PB0, 47 PB1, 48 PB2, 49 PF11, 50 PF12, 51 VSS, 52 VDD, 53 PF13, 54 PF14, 55 PF15, 56 PG0, 57 PG1, 58 PE7, 59 PE8, 60 PE9, 61 VSS, 62 VDD, 63 PE10, 64 PE11, 65 PE12, 66 PE13, 67 PE14, 68 PE15, 69 PB10, 70 PB11, 71 VSS, 72 VDD, 73 PB12, 74 PB13, 75 PB14, 76 PB15, 77 PD8, 78 PD9, 79 PD10, 80 PD11, 81 PD12, 82 PD13, 83 VSS, 84 VDD, 85 PD14, 86 PD15, 87 PG2, 88 PG3, 89 PG4, 90 PG5, 91 PG6, 92 PG7, 93 PG8, 94 VSS, 95 VDDIO2, 96 PC6, 97 PC7, 98 PC8, 99 PC9, 100 PA8, 101 PA9, 102 PA10, 103 PA11, 104 PA12, 105 PA13, 106 VDDUSB, 107 VSS, 108 VDD, 109 PA14, 110 PA15, 111 PC10, 112 PC11, 113 PC12, 114 PD0, 115 PD1, 116 PD2, 117 PD3, 118 PD4, 119 PD5, 120 VSS, 121 VDD, 122 PD6, 123 PD7, 124 PG9, 125 PG10, 126 PG11, 127 PG12, 128 PG13, 129 PG14, 130 VSS, 131 VDDIO2, 132 PG15, 133 PB3, 134 PB4, 135 PB5, 136 PB6, 137 PB7, 138 PH3, 139 PB8, 140 PB9, 141 PE0, 142 PE1, 143 VSS, 144 VDD

## STM32L496ZGTxP
designator U?  value STM32L496ZGTxP  Reference: U
STMicroelectronics Arm Cortex-M4 MCU, 1024KB flash, 320KB RAM, 80 MHz, 1.71-3.6V, 113 GPIO, LQFP144; ki_keywords: Arm Cortex-M4 STM32L4 STM32L4x6; ki_fp_filters: LQFP*20x20mm*P0.5mm*; Footprint: Package_QFP:LQFP-144_20x20mm_P0.5mm; Datasheet: https://www.st.com/resource/en/datasheet/stm32l496zg.pdf; Description_: STMicroelectronics Arm Cortex-M4 MCU, 1024KB flash, 320KB RAM, 80 MHz, 1.71-3.6V, 113 GPIO, LQFP144
pins: 1 PE2, 2 PE3, 3 PE4, 4 PE5, 5 PE6, 6 VBAT, 7 PC13, 8 PC14, 9 PC15, 10 PF0, 11 PF1, 12 PF2, 13 PF3, 14 PF4, 15 PF5, 16 VSS, 17 VDD, 18 PF6, 19 PF7, 20 PF8, 21 PF9, 22 PF10, 23 PH0, 24 PH1, 25 NRST, 26 PC0, 27 PC1, 28 PC2, 29 PC3, 30 VSSA, 31 VREF-, 32 VREF+, 33 VDDA, 34 PA0, 35 PA1, 36 PA2, 37 PA3, 38 VSS, 39 VDD, 40 PA4, 41 PA5, 42 PA6, 43 PA7, 44 PC4, 45 PC5, 46 PB0, 47 PB1, 48 PB2, 49 PF11, 50 PF12, 51 VSS, 52 VDD, 53 PF13, 54 PF14, 55 PF15, 56 PG0, 57 PG1, 58 PE7, 59 PE8, 60 PE9, 61 VSS, 62 VDD, 63 PE10, 64 PE11, 65 PE12, 66 PE13, 67 PE14, 68 PE15, 69 PB10, 70 VDD12, 71 VSS, 72 VDD, 73 PB12, 74 PB13, 75 PB14, 76 PB15, 77 PD8, 78 PD9, 79 PD10, 80 PD11, 81 PD12, 82 PD13, 83 VSS, 84 VDD, 85 PD14, 86 PD15, 87 PG2, 88 PG3, 89 PG4, 90 PG5, 91 PG6, 92 PG7, 93 PG8, 94 VSS, 95 VDDIO2, 96 PC6, 97 PC7, 98 PC8, 99 PC9, 100 PA8, 101 PA9, 102 PA10, 103 PA11, 104 PA12, 105 PA13, 106 VDDUSB, 107 VSS, 108 VDD, 109 PA14, 110 PA15, 111 PC10, 112 PC11, 113 PC12, 114 PD0, 115 PD1, 116 PD2, 117 PD3, 118 PD4, 119 PD5, 120 VSS, 121 VDD, 122 PD6, 123 PD7, 124 PG9, 125 PG10, 126 PG11, 127 PG12, 128 PG13, 129 PG14, 130 VSS, 131 VDDIO2, 132 PB3, 133 PB4, 134 PB5, 135 PB6, 136 PB7, 137 PH3, 138 PB8, 139 PB9, 140 PE0, 141 PE1, 142 VDD12, 143 VSS, 144 VDD